# EAGLE library part PT2268 (library chuong)
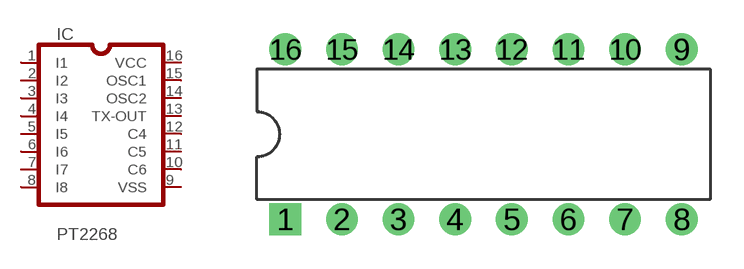
[diagram p64: symbol with the pads of DIL-16; footprint DIL-16]

Designator prefix IC

## PT2268  [DIL-16]
1  I1  out
2  I2  out
3  I3  out
4  I4  in
5  I5  out
6  I6  out
7  I7  out
8  I8  out
9  VSS  out
10  C6  in
11  C5  in
12  C4  in
13  TX-OUT  in
14  OSC2  in
15  OSC1  in
16  VCC  in

## Footprint DIL-16 (pad centres in mm)
drill 0.61 pad 1.422 square: 1 -8.89,-3.81
drill 0.61 pad 1.422 round: 2 -6.35,-3.81; 3 -3.81,-3.81; 4 -1.27,-3.81; 5 1.27,-3.81; 6 3.81,-3.81; 7 6.35,-3.81; 8 8.89,-3.81; 9 8.89,3.81; 10 6.35,3.81; 11 3.81,3.81; 12 1.27,3.81; 13 -1.27,3.81; 14 -3.81,3.81; 15 -6.35,3.81; 16 -8.89,3.81